# Altium footprint library TQFP44.PcbLib: 1 footprints
Each footprint in its own frame and in the unit in brackets; x right, y up, seen from the top. Pads: shape width x height; smd on the part's side, far side on the other; paste and mask are expansions set on the pad; w line width, h text height; cw(c..) or ccw(c..) is an arc to the next point about the centre after c.
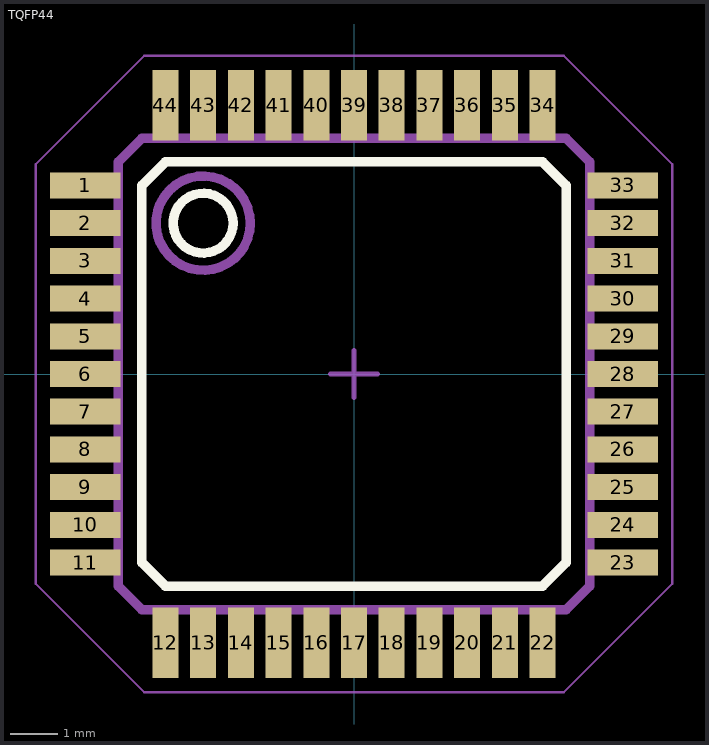
[diagram p0: the footprint, top view; thin cyan lines are the x and y axes]

## TQFP44 [mm] "44-Lead Plastic Thin Quad Flatpack (PT) - 10x10x1 mm Body, 2.00 mm [TQFP]"
height 1.2
pads (44):
  rect 1.5x0.55 smd: 1(-5.7,4) 2(-5.7,3.2) 3(-5.7,2.4) 4(-5.7,1.6) 5(-5.7,0.8) 6(-5.7,0) 7(-5.7,-0.8) 8(-5.7,-1.6) 9(-5.7,-2.4) 10(-5.7,-3.2) 11(-5.7,-4) 23(5.7,-4) 24(5.7,-3.2) 25(5.7,-2.4) 26(5.7,-1.6) 27(5.7,-0.8) 28(5.7,0) 29(5.7,0.8) 30(5.7,1.6) 31(5.7,2.4) 32(5.7,3.2) 33(5.7,4)
  rect 0.55x1.5 smd: 12(-4,-5.7) 13(-3.2,-5.7) 14(-2.4,-5.7) 15(-1.6,-5.7) 16(-0.8,-5.7) 17(0,-5.7) 18(0.8,-5.7) 19(1.6,-5.7) 20(2.4,-5.7) 21(3.2,-5.7) 22(4,-5.7) 34(4,5.7) 35(3.2,5.7) 36(2.4,5.7) 37(1.6,5.7) 38(0.8,5.7) 39(0,5.7) 40(-0.8,5.7) 41(-1.6,5.7) 42(-2.4,5.7) 43(-3.2,5.7) 44(-4,5.7)
Top Overlay:
  circle w0.2: c-3.2,3.2 r0.635
  lines w0.2: -4.5,-4 -4,-4.5 4,-4.5 4.5,-4 4.5,4 4,4.5 -4,4.5 -4.5,4 -4.5,-4
Mechanical 7:
  circle w0.2: c-3.2,3.2 r1
  lines w0.05: -6.75,-4.45 -4.45,-6.75 4.45,-6.75 6.75,-4.45 6.75,4.45 4.45,6.75 -4.45,6.75 -6.75,4.45 -6.75,-4.45
  lines w0.2: -5,-4.5 -4.5,-5 4.5,-5 5,-4.5 5,4.5 4.5,5 -4.5,5 -5,4.5 -5,-4.5
Mechanical 15:
  lines w0.1: -0.5,0 0.5,0 ; 0,-0.5 0,0.5
3D body "User Library-TQFP44-4.STEP": height 1.14, standoff -0.01, extent -6.012,-6.012 6.012,6.012